# Altium schematic symbol library usbarm.SchLib: 4 symbols
Pins are listed as number, name and electrical type; pins without a type are passive.

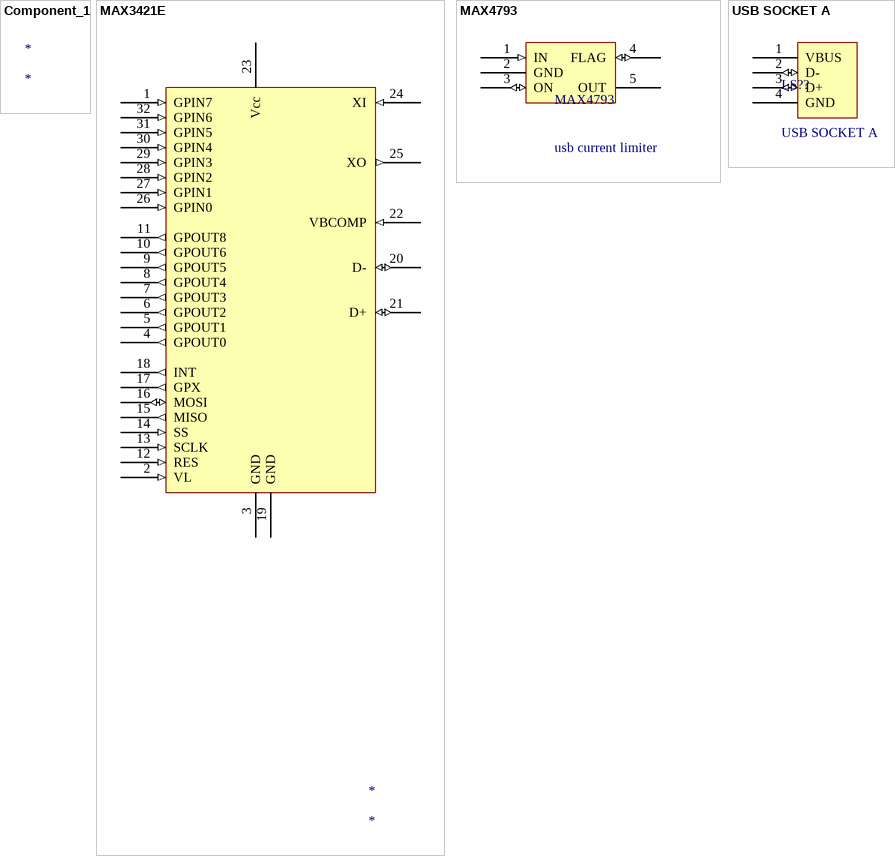
[diagram p0: symbols Component_1 to USB SOCKET A]

## Component_1
designator *

## MAX3421E
designator *
footprint TQFP32_N (32-Pin Plastic Thin Quad Flat Pack (TFQP32), IPC Medium Density)
pins: 1 GPIN7 (in), 2 VL (in), 3 GND (power), 4 GPOUT0 (out), 5 GPOUT1 (out), 6 GPOUT2 (out), 7 GPOUT3 (out), 8 GPOUT4 (out), 9 GPOUT5 (out), 10 GPOUT6 (out), 11 GPOUT8 (out), 12 RES (in), 13 SCLK (in), 14 SS (in), 15 MISO (out), 16 MOSI (io), 17 GPX (out), 18 INT (out), 19 GND (power), 20 D- (io), 21 D+ (io), 22 VBCOMP (in), 23 Vcc (power), 24 XI (in), 25 XO (out), 26 GPIN0 (in), 27 GPIN1 (in), 28 GPIN2 (in), 29 GPIN3 (in), 30 GPIN4 (in), 31 GPIN5 (in), 32 GPIN6 (in)

## MAX4793
designator MAX4793, comment usb current limiter
Published: 24-Mar-1999; LatestRevisionDate: 17-Dec-2003; LatestRevisionNote: Schematic revised, PCB Footprint replaced.; PackageReference: ABSM-1574; Publisher: Altium Limited; ComponentLink1Description: Manufacturer Link; ComponentLink1URL: http://www.megastar.com/linecard/buzzmode/index.php
footprint ABSM-1574 (Magnetic Transducer Buzzer)
pins: 1 IN (in), 2 GND (power), 3 ON (io), 4 FLAG (io), 5 OUT (power)
1 alternate drawing of the same symbol

## USB SOCKET A
designator LS??
Published: 24-Mar-1999; LatestRevisionDate: 17-Dec-2003; LatestRevisionNote: Schematic revised, PCB Footprint replaced.; PackageReference: ABSM-1574; Publisher: Altium Limited; ComponentLink1Description: Manufacturer Link; ComponentLink1URL: http://www.megastar.com/linecard/buzzmode/index.php
pins: 1 VBUS (power), 2 D- (io), 3 D+ (io), 4 GND (power)
1 alternate drawing of the same symbol